# Altium footprint library FQFP (0.5mm Pitch, Square) - Corner Index.PcbLib: 44 footprints (part 1 of 4)
Each footprint in its own frame and in the unit in brackets; x right, y up, seen from the top. Pads: shape width x height; smd on the part's side, far side on the other; paste and mask are expansions set on the pad; w line width, h text height; cw(c..) or ccw(c..) is an arc to the next point about the centre after c.
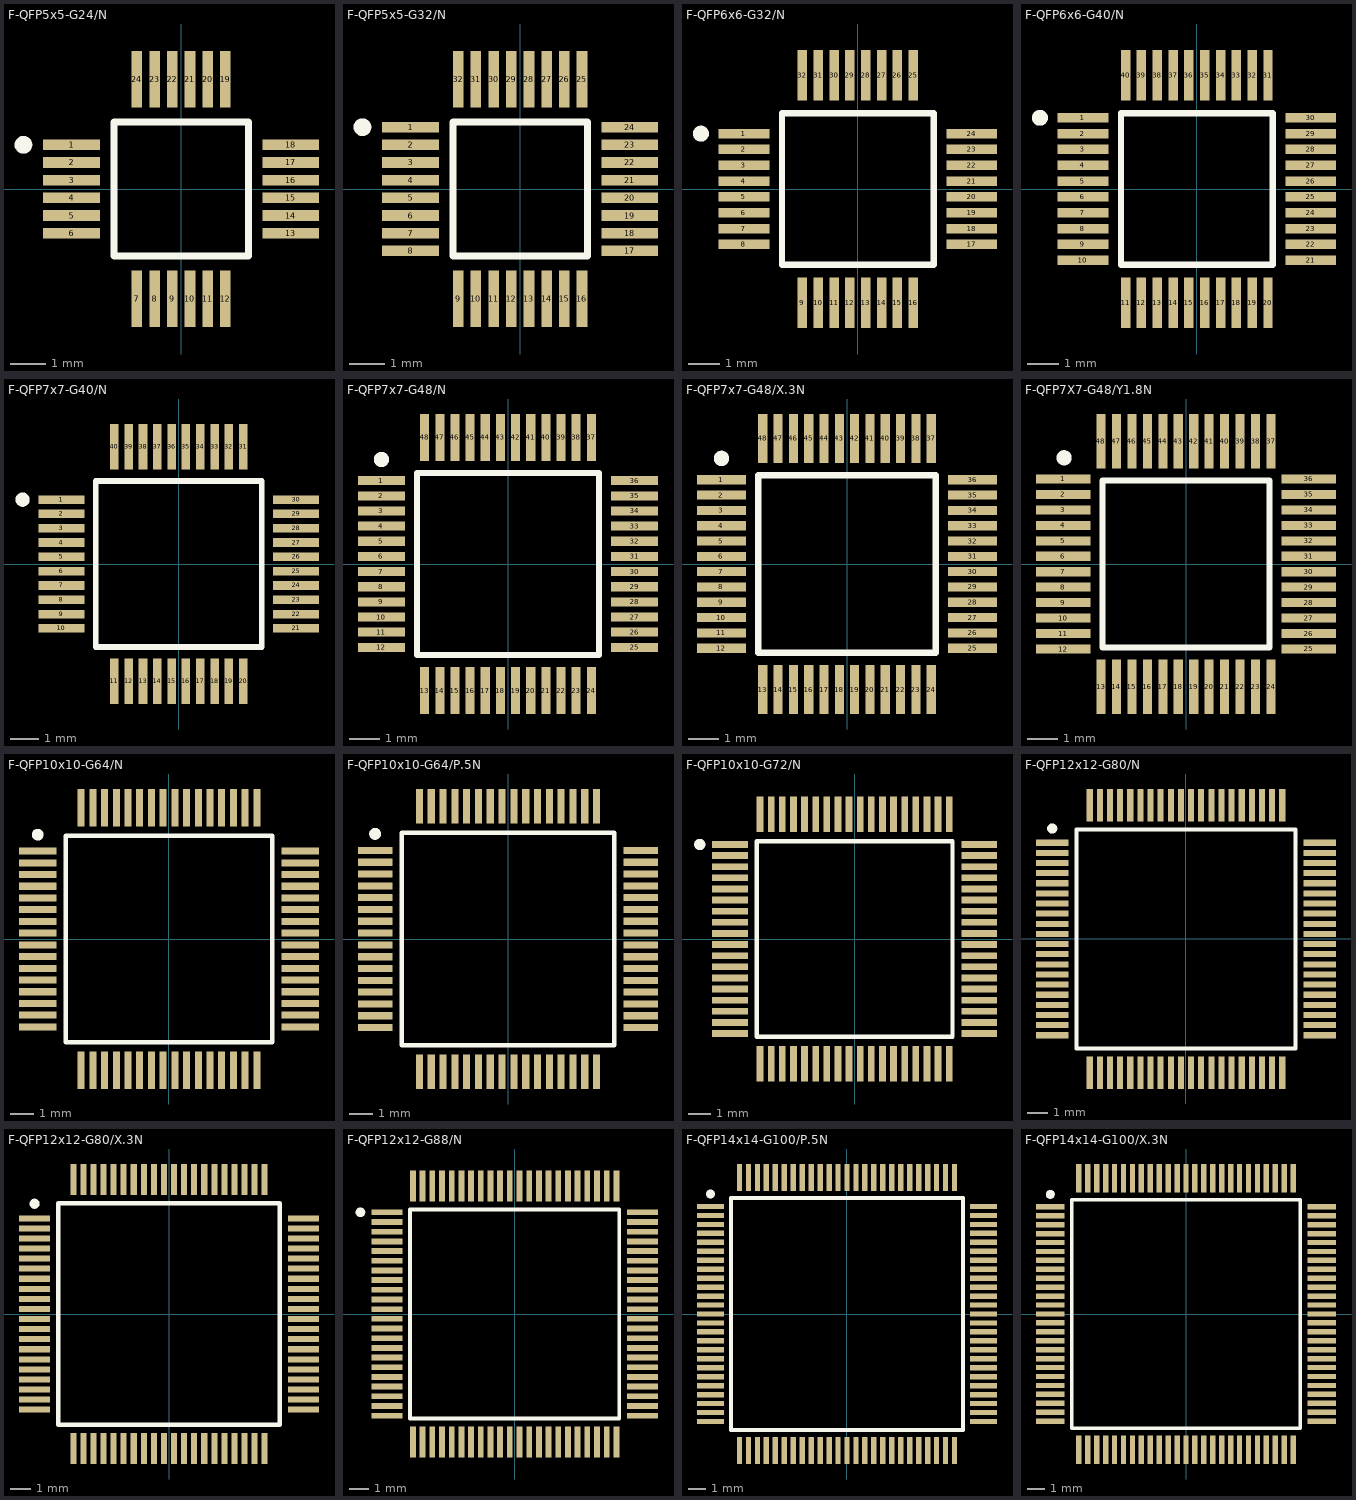
[diagram p0: the footprints below, top view; thin cyan lines are the x and y axes]

## F-QFP5x5-G24/N [mm] "QFP; 24 Leads; Body 5 x 5 mm; Pitch 0.5 mm"
height 1.7
pads (24):
  rect 1.6x0.3 smd: 1(-3.1,1.25) 2(-3.1,0.75) 3(-3.1,0.25) 4(-3.1,-0.25) 5(-3.1,-0.75) 6(-3.1,-1.25) 13(3.1,-1.25) 14(3.1,-0.75) 15(3.1,-0.25) 16(3.1,0.25) 17(3.1,0.75) 18(3.1,1.25)
  rect 0.3x1.6 smd: 7(-1.25,-3.1) 8(-0.75,-3.1) 9(-0.25,-3.1) 10(0.25,-3.1) 11(0.75,-3.1) 12(1.25,-3.1) 19(1.25,3.1) 20(0.75,3.1) 21(0.25,3.1) 22(-0.25,3.1) 23(-0.75,3.1) 24(-1.25,3.1)
Top Overlay:
  circle w0.25: c-4.46,1.25 r0.125
  lines w0.2: -1.9,-1.9 -1.9,1.9 1.9,1.9 1.9,-1.9 -1.9,-1.9

## F-QFP5x5-G32/N [mm] "QFP; 32 Leads; Body 5 x 5 mm; Pitch 0.5 mm"
height 1.7
pads (32):
  rect 1.6x0.3 smd: 1(-3.1,1.75) 2(-3.1,1.25) 3(-3.1,0.75) 4(-3.1,0.25) 5(-3.1,-0.25) 6(-3.1,-0.75) 7(-3.1,-1.25) 8(-3.1,-1.75) 17(3.1,-1.75) 18(3.1,-1.25) 19(3.1,-0.75) 20(3.1,-0.25) 21(3.1,0.25) 22(3.1,0.75) 23(3.1,1.25) 24(3.1,1.75)
  rect 0.3x1.6 smd: 9(-1.75,-3.1) 10(-1.25,-3.1) 11(-0.75,-3.1) 12(-0.25,-3.1) 13(0.25,-3.1) 14(0.75,-3.1) 15(1.25,-3.1) 16(1.75,-3.1) 25(1.75,3.1) 26(1.25,3.1) 27(0.75,3.1) 28(0.25,3.1) 29(-0.25,3.1) 30(-0.75,3.1) 31(-1.25,3.1) 32(-1.75,3.1)
Top Overlay:
  circle w0.25: c-4.46,1.75 r0.125
  lines w0.2: -1.9,-1.9 -1.9,1.9 1.9,1.9 1.9,-1.9 -1.9,-1.9

## F-QFP6x6-G32/N [mm] "QFP; 32 Leads; Body 6 x 6 mm; Pitch 0.5 mm"
height 1.7
pads (32):
  rect 1.6x0.3 smd: 1(-3.6,1.75) 2(-3.6,1.25) 3(-3.6,0.75) 4(-3.6,0.25) 5(-3.6,-0.25) 6(-3.6,-0.75) 7(-3.6,-1.25) 8(-3.6,-1.75) 17(3.6,-1.75) 18(3.6,-1.25) 19(3.6,-0.75) 20(3.6,-0.25) 21(3.6,0.25) 22(3.6,0.75) 23(3.6,1.25) 24(3.6,1.75)
  rect 0.3x1.6 smd: 9(-1.75,-3.6) 10(-1.25,-3.6) 11(-0.75,-3.6) 12(-0.25,-3.6) 13(0.25,-3.6) 14(0.75,-3.6) 15(1.25,-3.6) 16(1.75,-3.6) 25(1.75,3.6) 26(1.25,3.6) 27(0.75,3.6) 28(0.25,3.6) 29(-0.25,3.6) 30(-0.75,3.6) 31(-1.25,3.6) 32(-1.75,3.6)
Top Overlay:
  circle w0.25: c-4.96,1.75 r0.125
  lines w0.2: -2.4,-2.4 2.4,-2.4 2.4,2.4 -2.4,2.4 -2.4,-2.4

## F-QFP6x6-G40/N [mm] "QFP; 40 Leads; Body 6 x 6 mm; Pitch 0.5 mm"
height 1.7
pads (40):
  rect 1.6x0.3 smd: 1(-3.6,2.25) 2(-3.6,1.75) 3(-3.6,1.25) 4(-3.6,0.75) 5(-3.6,0.25) 6(-3.6,-0.25) 7(-3.6,-0.75) 8(-3.6,-1.25) 9(-3.6,-1.75) 10(-3.6,-2.25) 21(3.6,-2.25) 22(3.6,-1.75) 23(3.6,-1.25) 24(3.6,-0.75) 25(3.6,-0.25) 26(3.6,0.25) 27(3.6,0.75) 28(3.6,1.25) 29(3.6,1.75) 30(3.6,2.25)
  rect 0.3x1.6 smd: 11(-2.25,-3.6) 12(-1.75,-3.6) 13(-1.25,-3.6) 14(-0.75,-3.6) 15(-0.25,-3.6) 16(0.25,-3.6) 17(0.75,-3.6) 18(1.25,-3.6) 19(1.75,-3.6) 20(2.25,-3.6) 31(2.25,3.6) 32(1.75,3.6) 33(1.25,3.6) 34(0.75,3.6) 35(0.25,3.6) 36(-0.25,3.6) 37(-0.75,3.6) 38(-1.25,3.6) 39(-1.75,3.6) 40(-2.25,3.6)
Top Overlay:
  circle w0.25: c-4.96,2.25 r0.125
  lines w0.2: -2.4,-2.4 2.4,-2.4 2.4,2.4 -2.4,2.4 -2.4,-2.4

## F-QFP7x7-G40/N [mm] "QFP; 40 Leads; Body 7 x 7 mm; Pitch 0.5 mm"
height 1.7
pads (40):
  rect 1.6x0.3 smd: 1(-4.1,2.25) 2(-4.1,1.75) 3(-4.1,1.25) 4(-4.1,0.75) 5(-4.1,0.25) 6(-4.1,-0.25) 7(-4.1,-0.75) 8(-4.1,-1.25) 9(-4.1,-1.75) 10(-4.1,-2.25) 21(4.1,-2.25) 22(4.1,-1.75) 23(4.1,-1.25) 24(4.1,-0.75) 25(4.1,-0.25) 26(4.1,0.25) 27(4.1,0.75) 28(4.1,1.25) 29(4.1,1.75) 30(4.1,2.25)
  rect 0.3x1.6 smd: 11(-2.25,-4.1) 12(-1.75,-4.1) 13(-1.25,-4.1) 14(-0.75,-4.1) 15(-0.25,-4.1) 16(0.25,-4.1) 17(0.75,-4.1) 18(1.25,-4.1) 19(1.75,-4.1) 20(2.25,-4.1) 31(2.25,4.1) 32(1.75,4.1) 33(1.25,4.1) 34(0.75,4.1) 35(0.25,4.1) 36(-0.25,4.1) 37(-0.75,4.1) 38(-1.25,4.1) 39(-1.75,4.1) 40(-2.25,4.1)
Top Overlay:
  circle w0.25: c-5.46,2.25 r0.125
  lines w0.2: -2.9,-2.9 -2.9,2.9 2.9,2.9 2.9,-2.9 -2.9,-2.9

## F-QFP7x7-G48/N [mm] "QFP; 48 Leads; Body 7 x 7 mm; Pitch 0.5 mm"
height 1.6
pads (48):
  rect 1.55x0.3 smd: 1(-4.175,2.75) 2(-4.175,2.25) 3(-4.175,1.75) 4(-4.175,1.25) 5(-4.175,0.75) 6(-4.175,0.25) 7(-4.175,-0.25) 8(-4.175,-0.75) 9(-4.175,-1.25) 10(-4.175,-1.75) 11(-4.175,-2.25) 12(-4.175,-2.75) 25(4.175,-2.75) 26(4.175,-2.25) 27(4.175,-1.75) 28(4.175,-1.25) 29(4.175,-0.75) 30(4.175,-0.25) 31(4.175,0.25) 32(4.175,0.75) 33(4.175,1.25) 34(4.175,1.75) 35(4.175,2.25) 36(4.175,2.75)
  rect 0.3x1.55 smd: 13(-2.75,-4.175) 14(-2.25,-4.175) 15(-1.75,-4.175) 16(-1.25,-4.175) 17(-0.75,-4.175) 18(-0.25,-4.175) 19(0.25,-4.175) 20(0.75,-4.175) 21(1.25,-4.175) 22(1.75,-4.175) 23(2.25,-4.175) 24(2.75,-4.175) 37(2.75,4.175) 38(2.25,4.175) 39(1.75,4.175) 40(1.25,4.175) 41(0.75,4.175) 42(0.25,4.175) 43(-0.25,4.175) 44(-0.75,4.175) 45(-1.25,4.175) 46(-1.75,4.175) 47(-2.25,4.175) 48(-2.75,4.175)
Top Overlay:
  circle w0.25: c-4.175,3.45 r0.125
  lines w0.2: -3,-3 -3,3 3,3 3,-3 -3,-3

## F-QFP7x7-G48/X.3N [mm] "QFP; 48 Leads; Body 7 x 7 mm; Pitch 0.5 mm"
height 1.6
pads (48):
  rect 1.6x0.3 smd: 1(-4.1,2.75) 2(-4.1,2.25) 3(-4.1,1.75) 4(-4.1,1.25) 5(-4.1,0.75) 6(-4.1,0.25) 7(-4.1,-0.25) 8(-4.1,-0.75) 9(-4.1,-1.25) 10(-4.1,-1.75) 11(-4.1,-2.25) 12(-4.1,-2.75) 25(4.1,-2.75) 26(4.1,-2.25) 27(4.1,-1.75) 28(4.1,-1.25) 29(4.1,-0.75) 30(4.1,-0.25) 31(4.1,0.25) 32(4.1,0.75) 33(4.1,1.25) 34(4.1,1.75) 35(4.1,2.25) 36(4.1,2.75)
  rect 0.3x1.6 smd: 13(-2.75,-4.1) 14(-2.25,-4.1) 15(-1.75,-4.1) 16(-1.25,-4.1) 17(-0.75,-4.1) 18(-0.25,-4.1) 19(0.25,-4.1) 20(0.75,-4.1) 21(1.25,-4.1) 22(1.75,-4.1) 23(2.25,-4.1) 24(2.75,-4.1) 37(2.75,4.1) 38(2.25,4.1) 39(1.75,4.1) 40(1.25,4.1) 41(0.75,4.1) 42(0.25,4.1) 43(-0.25,4.1) 44(-0.75,4.1) 45(-1.25,4.1) 46(-1.75,4.1) 47(-2.25,4.1) 48(-2.75,4.1)
Top Overlay:
  circle w0.25: c-4.1,3.45 r0.125
  lines w0.2: -2.9,-2.9 -2.9,2.9 2.9,2.9 2.9,-2.9 -2.9,-2.9

## F-QFP7X7-G48/Y1.8N [mm] "QFP; 48 Leads; Body 7 x 7 mm; Pitch 0.51 mm"
pads (48):
  rect 1.8x0.3 smd: 1(-4.05,2.805) 2(-4.05,2.295) 3(-4.05,1.785) 4(-4.05,1.275) 5(-4.05,0.765) 6(-4.05,0.255) 7(-4.05,-0.255) 8(-4.05,-0.765) 9(-4.05,-1.275) 10(-4.05,-1.785) 11(-4.05,-2.295) 12(-4.05,-2.805) 25(4.05,-2.805) 26(4.05,-2.295) 27(4.05,-1.785) 28(4.05,-1.275) 29(4.05,-0.765) 30(4.05,-0.255) 31(4.05,0.255) 32(4.05,0.765) 33(4.05,1.275) 34(4.05,1.785) 35(4.05,2.295) 36(4.05,2.805)
  rect 0.3x1.8 smd: 13(-2.805,-4.05) 14(-2.295,-4.05) 15(-1.785,-4.05) 16(-1.275,-4.05) 17(-0.765,-4.05) 18(-0.255,-4.05) 19(0.255,-4.05) 20(0.765,-4.05) 21(1.275,-4.05) 22(1.785,-4.05) 23(2.295,-4.05) 24(2.805,-4.05) 37(2.805,4.05) 38(2.295,4.05) 39(1.785,4.05) 40(1.275,4.05) 41(0.765,4.05) 42(0.255,4.05) 43(-0.255,4.05) 44(-0.765,4.05) 45(-1.275,4.05) 46(-1.785,4.05) 47(-2.295,4.05) 48(-2.805,4.05)
Top Overlay:
  circle w0.25: c-4.025,3.505 r0.125
  lines w0.2: -2.75,-2.75 2.75,-2.75 2.75,2.75 -2.75,2.75 -2.75,-2.75

## F-QFP10x10-G64/N [mm] "64-Pin Plastic Quad Flat Pack (TQFP)"
height 1.6
pads (64):
  rect 1.6x0.3 smd: 1(-5.6,3.75) 2(-5.6,3.25) 3(-5.6,2.75) 4(-5.6,2.25) 5(-5.6,1.75) 6(-5.6,1.25) 7(-5.6,0.75) 8(-5.6,0.25) 9(-5.6,-0.25) 10(-5.6,-0.75) 11(-5.6,-1.25) 12(-5.6,-1.75) 13(-5.6,-2.25) 14(-5.6,-2.75) 15(-5.6,-3.25) 16(-5.6,-3.75) 33(5.6,-3.75) 34(5.6,-3.25) 35(5.6,-2.75) 36(5.6,-2.25) 37(5.6,-1.75) 38(5.6,-1.25) 39(5.6,-0.75) 40(5.6,-0.25) 41(5.6,0.25) 42(5.6,0.75) 43(5.6,1.25) 44(5.6,1.75) 45(5.6,2.25) 46(5.6,2.75) 47(5.6,3.25) 48(5.6,3.75)
  rect 0.3x1.6 smd: 17(-3.75,-5.6) 18(-3.25,-5.6) 19(-2.75,-5.6) 20(-2.25,-5.6) 21(-1.75,-5.6) 22(-1.25,-5.6) 23(-0.75,-5.6) 24(-0.25,-5.6) 25(0.25,-5.6) 26(0.75,-5.6) 27(1.25,-5.6) 28(1.75,-5.6) 29(2.25,-5.6) 30(2.75,-5.6) 31(3.25,-5.6) 32(3.75,-5.6) 49(3.75,5.6) 50(3.25,5.6) 51(2.75,5.6) 52(2.25,5.6) 53(1.75,5.6) 54(1.25,5.6) 55(0.75,5.6) 56(0.25,5.6) 57(-0.25,5.6) 58(-0.75,5.6) 59(-1.25,5.6) 60(-1.75,5.6) 61(-2.25,5.6) 62(-2.75,5.6) 63(-3.25,5.6) 64(-3.75,5.6)
Top Overlay:
  circle w0.25: c-5.6,4.45 r0.125
  lines w0.2: -4.4,-4.4 4.4,-4.4 4.4,4.4 -4.4,4.4 -4.4,-4.4

## F-QFP10x10-G64/P.5N [mm] "QFP, Plastic; 64 Leads; Body 10 x 10 mm; Pitch 0.5 mm"
height 1.2
pads (64):
  rect 1.45x0.3 smd: 1(-5.625,3.75) 2(-5.625,3.25) 3(-5.625,2.75) 4(-5.625,2.25) 5(-5.625,1.75) 6(-5.625,1.25) 7(-5.625,0.75) 8(-5.625,0.25) 9(-5.625,-0.25) 10(-5.625,-0.75) 11(-5.625,-1.25) 12(-5.625,-1.75) 13(-5.625,-2.25) 14(-5.625,-2.75) 15(-5.625,-3.25) 16(-5.625,-3.75) 33(5.625,-3.75) 34(5.625,-3.25) 35(5.625,-2.75) 36(5.625,-2.25) 37(5.625,-1.75) 38(5.625,-1.25) 39(5.625,-0.75) 40(5.625,-0.25) 41(5.625,0.25) 42(5.625,0.75) 43(5.625,1.25) 44(5.625,1.75) 45(5.625,2.25) 46(5.625,2.75) 47(5.625,3.25) 48(5.625,3.75)
  rect 0.3x1.45 smd: 17(-3.75,-5.625) 18(-3.25,-5.625) 19(-2.75,-5.625) 20(-2.25,-5.625) 21(-1.75,-5.625) 22(-1.25,-5.625) 23(-0.75,-5.625) 24(-0.25,-5.625) 25(0.25,-5.625) 26(0.75,-5.625) 27(1.25,-5.625) 28(1.75,-5.625) 29(2.25,-5.625) 30(2.75,-5.625) 31(3.25,-5.625) 32(3.75,-5.625) 49(3.75,5.625) 50(3.25,5.625) 51(2.75,5.625) 52(2.25,5.625) 53(1.75,5.625) 54(1.25,5.625) 55(0.75,5.625) 56(0.25,5.625) 57(-0.25,5.625) 58(-0.75,5.625) 59(-1.25,5.625) 60(-1.75,5.625) 61(-2.25,5.625) 62(-2.75,5.625) 63(-3.25,5.625) 64(-3.75,5.625)
Top Overlay:
  circle w0.25: c-5.625,4.45 r0.125
  lines w0.2: -4.5,-4.5 -4.5,4.5 4.5,4.5 4.5,-4.5 -4.5,-4.5

## F-QFP10x10-G72/N [mm] "QFP; 72 Leads; Body 10 x 10 mm; Pitch 0.5 mm"
height 2.2
pads (72):
  rect 1.6x0.3 smd: 1(-5.6,4.25) 2(-5.6,3.75) 3(-5.6,3.25) 4(-5.6,2.75) 5(-5.6,2.25) 6(-5.6,1.75) 7(-5.6,1.25) 8(-5.6,0.75) 9(-5.6,0.25) 10(-5.6,-0.25) 11(-5.6,-0.75) 12(-5.6,-1.25) 13(-5.6,-1.75) 14(-5.6,-2.25) 15(-5.6,-2.75) 16(-5.6,-3.25) 17(-5.6,-3.75) 18(-5.6,-4.25) 37(5.6,-4.25) 38(5.6,-3.75) 39(5.6,-3.25) 40(5.6,-2.75) 41(5.6,-2.25) 42(5.6,-1.75) 43(5.6,-1.25) 44(5.6,-0.75) 45(5.6,-0.25) 46(5.6,0.25) 47(5.6,0.75) 48(5.6,1.25) 49(5.6,1.75) 50(5.6,2.25) 51(5.6,2.75) 52(5.6,3.25) 53(5.6,3.75) 54(5.6,4.25)
  rect 0.3x1.6 smd: 19(-4.25,-5.6) 20(-3.75,-5.6) 21(-3.25,-5.6) 22(-2.75,-5.6) 23(-2.25,-5.6) 24(-1.75,-5.6) 25(-1.25,-5.6) 26(-0.75,-5.6) 27(-0.25,-5.6) 28(0.25,-5.6) 29(0.75,-5.6) 30(1.25,-5.6) 31(1.75,-5.6) 32(2.25,-5.6) 33(2.75,-5.6) 34(3.25,-5.6) 35(3.75,-5.6) 36(4.25,-5.6) 55(4.25,5.6) 56(3.75,5.6) 57(3.25,5.6) 58(2.75,5.6) 59(2.25,5.6) 60(1.75,5.6) 61(1.25,5.6) 62(0.75,5.6) 63(0.25,5.6) 64(-0.25,5.6) 65(-0.75,5.6) 66(-1.25,5.6) 67(-1.75,5.6) 68(-2.25,5.6) 69(-2.75,5.6) 70(-3.25,5.6) 71(-3.75,5.6) 72(-4.25,5.6)
Top Overlay:
  circle w0.25: c-6.96,4.25 r0.125
  lines w0.2: -4.4,-4.4 4.4,-4.4 4.4,4.4 -4.4,4.4 -4.4,-4.4

## F-QFP12x12-G80/N [mm] "QFP; 80 Leads; Body 12 x 12 mm; Pitch 0.5 mm"
height 2.2
pads (80):
  rect 1.6x0.3 smd: 1(-6.6,4.75) 2(-6.6,4.25) 3(-6.6,3.75) 4(-6.6,3.25) 5(-6.6,2.75) 6(-6.6,2.25) 7(-6.6,1.75) 8(-6.6,1.25) 9(-6.6,0.75) 10(-6.6,0.25) 11(-6.6,-0.25) 12(-6.6,-0.75) 13(-6.6,-1.25) 14(-6.6,-1.75) 15(-6.6,-2.25) 16(-6.6,-2.75) 17(-6.6,-3.25) 18(-6.6,-3.75) 19(-6.6,-4.25) 20(-6.6,-4.75) 41(6.6,-4.75) 42(6.6,-4.25) 43(6.6,-3.75) 44(6.6,-3.25) 45(6.6,-2.75) 46(6.6,-2.25) 47(6.6,-1.75) 48(6.6,-1.25) 49(6.6,-0.75) 50(6.6,-0.25) 51(6.6,0.25) 52(6.6,0.75) 53(6.6,1.25) 54(6.6,1.75) 55(6.6,2.25) 56(6.6,2.75) 57(6.6,3.25) 58(6.6,3.75) 59(6.6,4.25) 60(6.6,4.75)
  rect 0.3x1.6 smd: 21(-4.75,-6.6) 22(-4.25,-6.6) 23(-3.75,-6.6) 24(-3.25,-6.6) 25(-2.75,-6.6) 26(-2.25,-6.6) 27(-1.75,-6.6) 28(-1.25,-6.6) 29(-0.75,-6.6) 30(-0.25,-6.6) 31(0.25,-6.6) 32(0.75,-6.6) 33(1.25,-6.6) 34(1.75,-6.6) 35(2.25,-6.6) 36(2.75,-6.6) 37(3.25,-6.6) 38(3.75,-6.6) 39(4.25,-6.6) 40(4.75,-6.6) 61(4.75,6.6) 62(4.25,6.6) 63(3.75,6.6) 64(3.25,6.6) 65(2.75,6.6) 66(2.25,6.6) 67(1.75,6.6) 68(1.25,6.6) 69(0.75,6.6) 70(0.25,6.6) 71(-0.25,6.6) 72(-0.75,6.6) 73(-1.25,6.6) 74(-1.75,6.6) 75(-2.25,6.6) 76(-2.75,6.6) 77(-3.25,6.6) 78(-3.75,6.6) 79(-4.25,6.6) 80(-4.75,6.6)
Top Overlay:
  circle w0.25: c-6.6,5.45 r0.125
  lines w0.2: -5.4,-5.4 5.4,-5.4 5.4,5.4 -5.4,5.4 -5.4,-5.4

## F-QFP12x12-G80/X.3N [mm] "QFP; 80 Leads; Body 12 x 12 mm; Pitch 0.5 mm"
height 1.2
pads (80):
  rect 1.55x0.3 smd: 1(-6.675,4.75) 2(-6.675,4.25) 3(-6.675,3.75) 4(-6.675,3.25) 5(-6.675,2.75) 6(-6.675,2.25) 7(-6.675,1.75) 8(-6.675,1.25) 9(-6.675,0.75) 10(-6.675,0.25) 11(-6.675,-0.25) 12(-6.675,-0.75) 13(-6.675,-1.25) 14(-6.675,-1.75) 15(-6.675,-2.25) 16(-6.675,-2.75) 17(-6.675,-3.25) 18(-6.675,-3.75) 19(-6.675,-4.25) 20(-6.675,-4.75) 41(6.675,-4.75) 42(6.675,-4.25) 43(6.675,-3.75) 44(6.675,-3.25) 45(6.675,-2.75) 46(6.675,-2.25) 47(6.675,-1.75) 48(6.675,-1.25) 49(6.675,-0.75) 50(6.675,-0.25) 51(6.675,0.25) 52(6.675,0.75) 53(6.675,1.25) 54(6.675,1.75) 55(6.675,2.25) 56(6.675,2.75) 57(6.675,3.25) 58(6.675,3.75) 59(6.675,4.25) 60(6.675,4.75)
  rect 0.3x1.55 smd: 21(-4.75,-6.675) 22(-4.25,-6.675) 23(-3.75,-6.675) 24(-3.25,-6.675) 25(-2.75,-6.675) 26(-2.25,-6.675) 27(-1.75,-6.675) 28(-1.25,-6.675) 29(-0.75,-6.675) 30(-0.25,-6.675) 31(0.25,-6.675) 32(0.75,-6.675) 33(1.25,-6.675) 34(1.75,-6.675) 35(2.25,-6.675) 36(2.75,-6.675) 37(3.25,-6.675) 38(3.75,-6.675) 39(4.25,-6.675) 40(4.75,-6.675) 61(4.75,6.675) 62(4.25,6.675) 63(3.75,6.675) 64(3.25,6.675) 65(2.75,6.675) 66(2.25,6.675) 67(1.75,6.675) 68(1.25,6.675) 69(0.75,6.675) 70(0.25,6.675) 71(-0.25,6.675) 72(-0.75,6.675) 73(-1.25,6.675) 74(-1.75,6.675) 75(-2.25,6.675) 76(-2.75,6.675) 77(-3.25,6.675) 78(-3.75,6.675) 79(-4.25,6.675) 80(-4.75,6.675)
Top Overlay:
  circle w0.25: c-6.675,5.475 r0.125
  lines w0.2: -5.5,-5.5 -5.5,5.5 5.5,5.5 5.5,-5.5 -5.5,-5.5

## F-QFP12x12-G88/N [mm] "QFP; 88 Leads; Body 12 x 12 mm; Pitch 0.5 mm"
height 2.2
pads (88):
  rect 1.6x0.3 smd: 1(-6.6,5.25) 2(-6.6,4.75) 3(-6.6,4.25) 4(-6.6,3.75) 5(-6.6,3.25) 6(-6.6,2.75) 7(-6.6,2.25) 8(-6.6,1.75) 9(-6.6,1.25) 10(-6.6,0.75) 11(-6.6,0.25) 12(-6.6,-0.25) 13(-6.6,-0.75) 14(-6.6,-1.25) 15(-6.6,-1.75) 16(-6.6,-2.25) 17(-6.6,-2.75) 18(-6.6,-3.25) 19(-6.6,-3.75) 20(-6.6,-4.25) 21(-6.6,-4.75) 22(-6.6,-5.25) 45(6.6,-5.25) 46(6.6,-4.75) 47(6.6,-4.25) 48(6.6,-3.75) 49(6.6,-3.25) 50(6.6,-2.75) 51(6.6,-2.25) 52(6.6,-1.75) 53(6.6,-1.25) 54(6.6,-0.75) 55(6.6,-0.25) 56(6.6,0.25) 57(6.6,0.75) 58(6.6,1.25) 59(6.6,1.75) 60(6.6,2.25) 61(6.6,2.75) 62(6.6,3.25) 63(6.6,3.75) 64(6.6,4.25) 65(6.6,4.75) 66(6.6,5.25)
  rect 0.3x1.6 smd: 23(-5.25,-6.6) 24(-4.75,-6.6) 25(-4.25,-6.6) 26(-3.75,-6.6) 27(-3.25,-6.6) 28(-2.75,-6.6) 29(-2.25,-6.6) 30(-1.75,-6.6) 31(-1.25,-6.6) 32(-0.75,-6.6) 33(-0.25,-6.6) 34(0.25,-6.6) 35(0.75,-6.6) 36(1.25,-6.6) 37(1.75,-6.6) 38(2.25,-6.6) 39(2.75,-6.6) 40(3.25,-6.6) 41(3.75,-6.6) 42(4.25,-6.6) 43(4.75,-6.6) 44(5.25,-6.6) 67(5.25,6.6) 68(4.75,6.6) 69(4.25,6.6) 70(3.75,6.6) 71(3.25,6.6) 72(2.75,6.6) 73(2.25,6.6) 74(1.75,6.6) 75(1.25,6.6) 76(0.75,6.6) 77(0.25,6.6) 78(-0.25,6.6) 79(-0.75,6.6) 80(-1.25,6.6) 81(-1.75,6.6) 82(-2.25,6.6) 83(-2.75,6.6) 84(-3.25,6.6) 85(-3.75,6.6) 86(-4.25,6.6) 87(-4.75,6.6) 88(-5.25,6.6)
Top Overlay:
  circle w0.25: c-7.96,5.25 r0.125
  lines w0.2: -5.4,-5.4 -5.4,5.4 5.4,5.4 5.4,-5.4 -5.4,-5.4

## F-QFP14x14-G100/P.5N [mm] "QFP; 100 Leads; Body 14 x 14 mm; Pitch 0.5 mm"
height 1.7
pads (100):
  rect 1.5x0.3 smd: 1(-7.625,6) 2(-7.625,5.5) 3(-7.625,5) 4(-7.625,4.5) 5(-7.625,4) 6(-7.625,3.5) 7(-7.625,3) 8(-7.625,2.5) 9(-7.625,2) 10(-7.625,1.5) 11(-7.625,1) 12(-7.625,0.5) 13(-7.625,0) 14(-7.625,-0.5) 15(-7.625,-1) 16(-7.625,-1.5) 17(-7.625,-2) 18(-7.625,-2.5) 19(-7.625,-3) 20(-7.625,-3.5) 21(-7.625,-4) 22(-7.625,-4.5) 23(-7.625,-5) 24(-7.625,-5.5) 25(-7.625,-6) 51(7.625,-6) 52(7.625,-5.5) 53(7.625,-5) 54(7.625,-4.5) 55(7.625,-4) 56(7.625,-3.5) 57(7.625,-3) 58(7.625,-2.5) 59(7.625,-2) 60(7.625,-1.5) 61(7.625,-1) 62(7.625,-0.5) 63(7.625,0) 64(7.625,0.5) 65(7.625,1) 66(7.625,1.5) 67(7.625,2) 68(7.625,2.5) 69(7.625,3) 70(7.625,3.5) 71(7.625,4) 72(7.625,4.5) 73(7.625,5) 74(7.625,5.5) 75(7.625,6)
  rect 0.3x1.5 smd: 26(-6,-7.625) 27(-5.5,-7.625) 28(-5,-7.625) 29(-4.5,-7.625) 30(-4,-7.625) 31(-3.5,-7.625) 32(-3,-7.625) 33(-2.5,-7.625) 34(-2,-7.625) 35(-1.5,-7.625) 36(-1,-7.625) 37(-0.5,-7.625) 38(0,-7.625) 39(0.5,-7.625) 40(1,-7.625) 41(1.5,-7.625) 42(2,-7.625) 43(2.5,-7.625) 44(3,-7.625) 45(3.5,-7.625) 46(4,-7.625) 47(4.5,-7.625) 48(5,-7.625) 49(5.5,-7.625) 50(6,-7.625) 76(6,7.625) 77(5.5,7.625) 78(5,7.625) 79(4.5,7.625) 80(4,7.625) 81(3.5,7.625) 82(3,7.625) 83(2.5,7.625) 84(2,7.625) 85(1.5,7.625) 86(1,7.625) 87(0.5,7.625) 88(0,7.625) 89(-0.5,7.625) 90(-1,7.625) 91(-1.5,7.625) 92(-2,7.625) 93(-2.5,7.625) 94(-3,7.625) 95(-3.5,7.625) 96(-4,7.625) 97(-4.5,7.625) 98(-5,7.625) 99(-5.5,7.625) 100(-6,7.625)
Top Overlay:
  circle w0.25: c-7.625,6.7 r0.125
  lines w0.2: -6.475,-6.475 6.475,-6.475 6.475,6.475 -6.475,6.475 -6.475,-6.475

## F-QFP14x14-G100/X.3N [mm] "100-Pin Plastic Quad Flat Pack (TQFP)"
height 1.6
pads (100):
  rect 1.6x0.3 smd: 1(-7.6,6) 2(-7.6,5.5) 3(-7.6,5) 4(-7.6,4.5) 5(-7.6,4) 6(-7.6,3.5) 7(-7.6,3) 8(-7.6,2.5) 9(-7.6,2) 10(-7.6,1.5) 11(-7.6,1) 12(-7.6,0.5) 13(-7.6,0) 14(-7.6,-0.5) 15(-7.6,-1) 16(-7.6,-1.5) 17(-7.6,-2) 18(-7.6,-2.5) 19(-7.6,-3) 20(-7.6,-3.5) 21(-7.6,-4) 22(-7.6,-4.5) 23(-7.6,-5) 24(-7.6,-5.5) 25(-7.6,-6) 51(7.6,-6) 52(7.6,-5.5) 53(7.6,-5) 54(7.6,-4.5) 55(7.6,-4) 56(7.6,-3.5) 57(7.6,-3) 58(7.6,-2.5) 59(7.6,-2) 60(7.6,-1.5) 61(7.6,-1) 62(7.6,-0.5) 63(7.6,0) 64(7.6,0.5) 65(7.6,1) 66(7.6,1.5) 67(7.6,2) 68(7.6,2.5) 69(7.6,3) 70(7.6,3.5) 71(7.6,4) 72(7.6,4.5) 73(7.6,5) 74(7.6,5.5) 75(7.6,6)
  rect 0.3x1.6 smd: 26(-6,-7.6) 27(-5.5,-7.6) 28(-5,-7.6) 29(-4.5,-7.6) 30(-4,-7.6) 31(-3.5,-7.6) 32(-3,-7.6) 33(-2.5,-7.6) 34(-2,-7.6) 35(-1.5,-7.6) 36(-1,-7.6) 37(-0.5,-7.6) 38(0,-7.6) 39(0.5,-7.6) 40(1,-7.6) 41(1.5,-7.6) 42(2,-7.6) 43(2.5,-7.6) 44(3,-7.6) 45(3.5,-7.6) 46(4,-7.6) 47(4.5,-7.6) 48(5,-7.6) 49(5.5,-7.6) 50(6,-7.6) 76(6,7.6) 77(5.5,7.6) 78(5,7.6) 79(4.5,7.6) 80(4,7.6) 81(3.5,7.6) 82(3,7.6) 83(2.5,7.6) 84(2,7.6) 85(1.5,7.6) 86(1,7.6) 87(0.5,7.6) 88(0,7.6) 89(-0.5,7.6) 90(-1,7.6) 91(-1.5,7.6) 92(-2,7.6) 93(-2.5,7.6) 94(-3,7.6) 95(-3.5,7.6) 96(-4,7.6) 97(-4.5,7.6) 98(-5,7.6) 99(-5.5,7.6) 100(-6,7.6)
Top Overlay:
  circle w0.25: c-7.6,6.7 r0.125
  lines w0.2: -6.4,-6.4 6.4,-6.4 6.4,6.4 -6.4,6.4 -6.4,-6.4